# Altium footprint library PICO_pcb.PcbLib: 4 footprints
Each footprint in its own frame and in the unit in brackets; x right, y up, seen from the top. Pads: shape width x height; smd on the part's side, far side on the other; paste and mask are expansions set on the pad; w line width, h text height; cw(c..) or ccw(c..) is an arc to the next point about the centre after c.
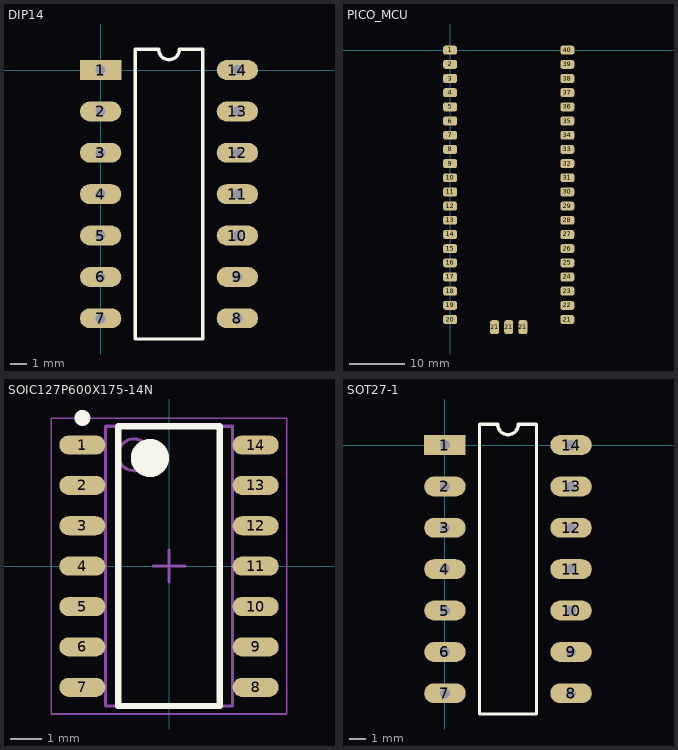
[diagram p0: the footprints below, top view; thin cyan lines are the x and y axes]

## DIP14 [mm]
pads (14):
  rect 2.5x1.2 hole 0.6: 1(0,0)
  oval 2.5x1.2 hole 0.6: 2(0,-2.5) 3(0,-5) 4(0,-7.5) 5(0,-10) 6(0,-12.5) 7(0,-15) 8(8.26,-15) 9(8.26,-12.5) 10(8.26,-10) 11(8.26,-7.5) 12(8.26,-5) 13(8.26,-2.5) 14(8.26,0)
Top Overlay:
  lines w0.2: 2.085,-16.25 6.175,-16.25 6.175,1.25 4.755,1.25 cw(c4.13,1.25) 3.505,1.25 2.085,1.25 2.085,-16.25

## PICO_MCU [mm]
pads (43):
  rrect50% 2.5x1.6 smd: 1(0,0) 2(0,-2.54) 3(0,-5.08) 4(0,-7.62) 5(0,-10.16) 6(0,-12.7) 7(0,-15.24) 8(0,-17.78) 9(0,-20.32) 10(0,-22.86) 11(0,-25.4) 12(0,-27.94) 13(0,-30.48) 14(0,-33.02) 15(0,-35.56) 16(0,-38.1) 17(0,-40.64) 18(0,-43.18) 19(0,-45.72) 20(0,-48.26) 21(21,-48.26) 22(21,-45.72) 23(21,-43.18) 24(21,-40.64) 25(21,-38.1) 26(21,-35.56) 27(21,-33.02) 28(21,-30.48) 29(21,-27.94) 30(21,-25.4) 31(21,-22.86) 32(21,-20.32) 33(21,-17.78) 34(21,-15.24) 35(21,-12.7) 36(21,-10.16) 37(21,-7.62) 38(21,-5.08) 39(21,-2.54) 40(21,0)
  rrect50% 1.6x2.5 smd: 21(7.96,-49.63) 21(10.5,-49.63) 21(13.04,-49.63)
Bottom Overlay:
  lines w0.254: -3,-51.75 -3,1.5 -2.5,2 23.75,2 23.75,-51.75 ; -3,-51.75 -3,-51.75 ; -3,-51.75 23.75,-51.75 ; 23.75,-51.75 23.75,-51.75
3D body "Pico-R3.step": height 3.23, standoff -0.5, extent 0,-49.65 21,2.65

## SOIC127P600X175-14N [mm] "SOIC, 14-Leads, Body 8.65x3.90mm, Pitch 1.27mm, IPC Medium Density"
height 1.75
pads (14):
  oval 1.45x0.6 smd: 1(-2.725,3.81) 2(-2.725,2.54) 3(-2.725,1.27) 4(-2.725,0) 5(-2.725,-1.27) 6(-2.725,-2.54) 7(-2.725,-3.81) 8(2.725,-3.81) 9(2.725,-2.54) 10(2.725,-1.27) 11(2.725,0) 12(2.725,1.27) 13(2.725,2.54) 14(2.725,3.81)
Top Overlay:
  circle w0.25: c-2.725,4.66 r0.125
  circle w0.6: c-0.6,3.4 r0.3
  lines w0.2: -1.6,-4.4 -1.6,4.4 1.6,4.4 1.6,-4.4 -1.6,-4.4
Mechanical 13:
  circle w0.1: c-1.1,3.5 r0.5
  lines w0.1: -2,-4.4 -2,4.4 2,4.4 2,-4.4 -2,-4.4
Mechanical 15:
  lines w0.05: -3.7,-4.65 -3.7,4.65 3.7,4.65 3.7,-4.65 -3.7,-4.65
  lines w0.1: -0.5,0 0.5,0 ; 0,-0.5 0,0.5
3D body: height 1.75, standoff 0.25, extent -2,-4.4 2,4.4

## SOT27-1 [mm]
pads (14):
  rect 2.5x1.2 hole 0.6: 1(0,0)
  oval 2.5x1.2 hole 0.6: 2(0,-2.5) 3(0,-5) 4(0,-7.5) 5(0,-10) 6(0,-12.5) 7(0,-15) 8(7.62,-15) 9(7.62,-12.5) 10(7.62,-10) 11(7.62,-7.5) 12(7.62,-5) 13(7.62,-2.5) 14(7.62,0)
Top Overlay:
  lines w0.2: 2.085,-16.25 2.085,1.25 3.185,1.25 ccw(c3.81,1.25) 4.435,1.25 5.535,1.25 5.535,-16.25 2.085,-16.25